# Altium footprint library Components.PcbLib: 163 footprints (part 8 of 11)
Each footprint in its own frame and in the unit in brackets; x right, y up, seen from the top. Pads: shape width x height; smd on the part's side, far side on the other; paste and mask are expansions set on the pad; w line width, h text height; cw(c..) or ccw(c..) is an arc to the next point about the centre after c.
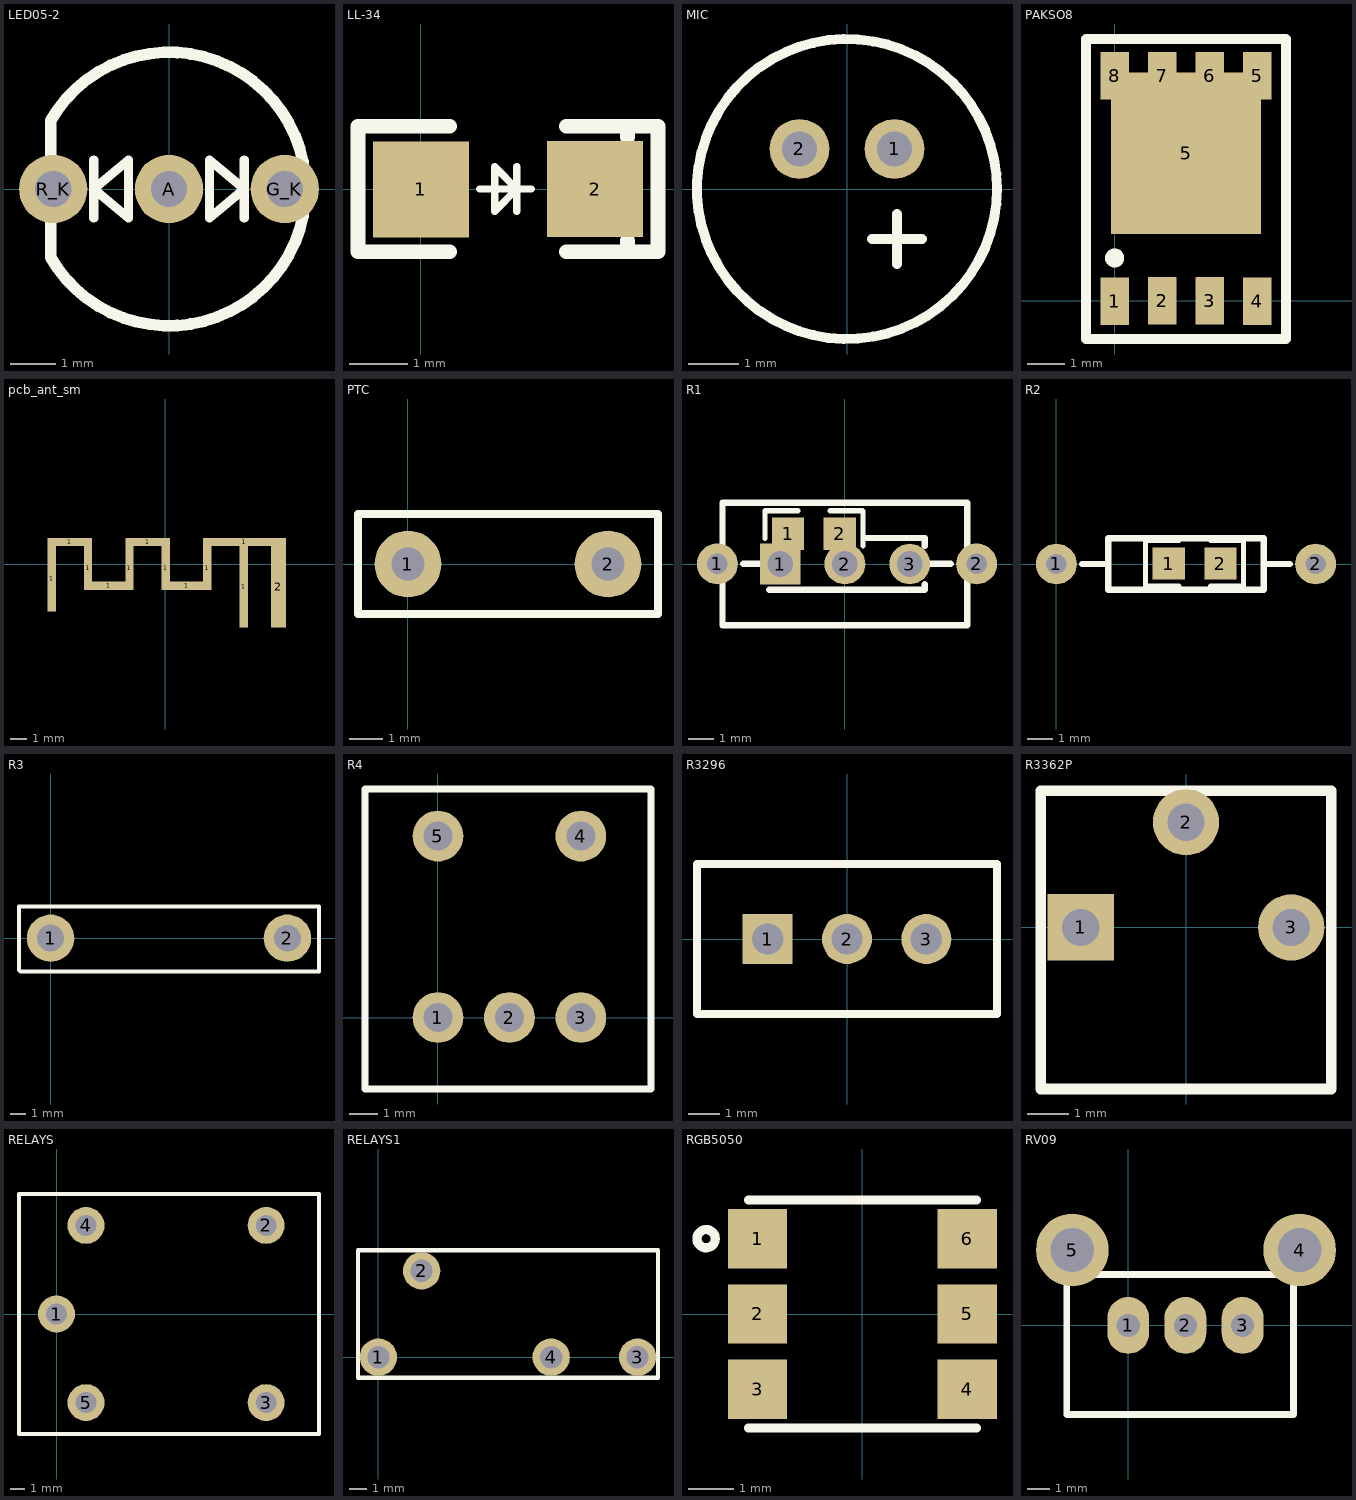
[diagram p7: the footprints below, top view; thin cyan lines are the x and y axes]

## LED05-2 [mm]
pads (3):
  round 1.5 hole 0.8: A(-0.001,0.001) G_K(2.539,0.001) R_K(-2.541,0.001)
Top Overlay:
  lines w0.203: -1.652,-0.634 -1.652,0.636 ; 1.65,-0.634 1.65,0.636 ; -1.652,0.001 -0.89,-0.634 -0.89,0.636 -1.652,0.001 ; 0.888,-0.634 1.65,0.001 0.888,0.636 0.888,-0.634
  lines w0.254: -2.599,-1.499 ccw(c-0.001,0.001) -2.599,1.501 -2.599,-1.499

## LL-34 [mm] "3.5*1.5mm"
pads (2):
  rect 1.65x1.65 smd: 1(0.003,-0.008) 2(3,0)
Top Overlay:
  lines w0.127: 1.016,0 1.905,0 ; 1.651,-0.381 1.651,0.381 ; 1.27,-0.381 1.27,0.381 1.651,0 1.27,-0.381
  lines w0.254: 0.5,-1.08 -1.08,-1.08 -1.08,1.08 0.5,1.08 ; 2.5,-1.08 4.064,-1.08 ; 2.5,1.08 4.08,1.08 4.08,-1.08 ; 3.556,-1.08 3.556,-0.889 ; 3.556,0.889 3.556,1.08

## MIC [mm] "MIC 6*5mm"
pads (2):
  round 1.2 hole 0.7: 1(0.95,0.8) 2(-0.95,0.8)
Top Overlay:
  circle w0.2: c0,0 r3
  lines w0.2: 0.5,-1 1.5,-1 ; 1,-1.5 1,-0.5

## PAKSO8 [mm]
pads (9):
  rect 0.76x1.27 smd: 1(0.003,-0.008) 2(1.27,0) 3(2.54,0) 4(3.81,-0.008) 5(3.81,6) 6(2.54,6) 7(1.27,6) 8(0,6)
  rect 4x4.3 smd: 5(1.905,3.937)
Top Overlay:
  circle w0.254: c0,1.143 r0.127
  lines w0.254: -0.762,-1.016 -0.762,6.985 -0.635,6.985 4.572,6.985 4.572,-1.016 -0.762,-1.016

## pcb_ant_sm [mm]
pads (12):
  rect 0.5x3.94 smd: 1(-6.85,-0.87)
  rect 2.7x0.5 smd: 1(-5.75,1.35) 1(-1.05,1.35)
  rect 0.5x2.64 smd: 1(-4.65,-0.22) 1(-2.15,-0.22) 1(0.05,-0.22) 1(2.55,-0.22)
  rect 2x0.5 smd: 1(-3.4,-1.29) 1(1.3,-1.29)
  rect 0.5x4.9 smd: 1(4.75,-1.35)
  rect 5x0.5 smd: 1(4.8,1.348)
  rect 0.9x4.9 smd: 2(6.85,-1.35)

## PTC [mm] "Resettable fuse"
pads (2):
  round 2 hole 1: 1(0,0) 2(6,0)
Top Overlay:
  lines w0.254: -1.5,-1.5 -1.5,1.5 7.5,1.5 7.5,-1.5 -1.5,-1.5

## R1 [mm] "R"
pads (7):
  round 1.6 hole 0.8: 1(-5,0.003) 2(5.16,0.003)
  rect 1.6x1.6 hole 1: 1(-2.54,0)
  rect 1.27x1.27 smd: 1(-2.232,1.192) 2(-0.2,1.192)
  round 1.6 hole 1: 2(0,0) 3(2.54,0)
Top Overlay:
  lines w0.2: -3.132,1 -3.132,2.07 ; -3.124,2.089 -1.835,2.089 ; -0.585,2.089 0.695,2.089 ; 0.7,0.7 0.7,2.075
  lines w0.254: -3.984,0.003 -2.968,0.003 ; -2.732,-1.013 -2.968,-1.013 3.128,-1.013 3.128,-0.8 ; 0.8,1.019 3.128,1.019 3.128,0.706 ; 3.128,0.003 4.144,0.003 ; -4.8,-2.4 -4.8,2.4 -4,2.4 4,2.4 4.8,2.4 4.8,-2.4 -4.8,-2.4

## R2 [mm] "R"
pads (4):
  round 1.6 hole 0.8: 1(0,0.003) 2(10.16,0.003)
  rect 1.27x1.27 smd: 1(4.4,0.022) 2(6.432,0.022)
Top Overlay:
  lines w0.2: 3.5,-0.859 3.5,0.9 ; 3.508,-0.859 4.797,-0.859 ; 3.508,0.919 4.797,0.919 ; 6.047,-0.859 7.327,-0.859 ; 6.047,0.919 7.327,0.919 ; 7.332,-0.856 7.332,0.905
  lines w0.254: 1.016,0.003 2.032,0.003 ; 8.128,0.003 9.144,0.003 ; 2.032,-1.013 8.128,-1.013 8.128,1.019 2.032,1.019 2.032,-1.013

## R3 [mm] "R"
pads (2):
  round 3 hole 1.7: 1(0,0.003) 2(15,0)
Top Overlay:
  lines w0.254: -2,-2 -2,2 17,2 17,-2.1 -1.9,-2.1 -2,-2

## R4 [mil]
pads (5):
  round 70 hole 40: 1(0,0) 2(98.43,0) 3(196.85,0) 4(196.85,250) 5(0,250)
Top Overlay:
  lines w10: -100.5,-98.5 -100.5,314.96 293.5,314.96 293.5,-98.5 -100.5,-98.5

## R3296 [mm] "R 3296W"
pads (3):
  rect 1.6x1.6 hole 1: 1(-2.54,0)
  round 1.6 hole 1: 2(0,0) 3(2.54,0)
Top Overlay:
  lines w0.254: -4.8,-2.4 -4.8,2.4 -4,2.4 4,2.4 4.8,2.4 4.8,-2.4 -4.8,-2.4

## R3362P [mm] "R 3362P"
pads (3):
  rect 1.6x1.6 hole 0.9: 1(-2.54,0)
  round 1.6 hole 0.9: 2(0,2.54) 3(2.54,0)
Top Overlay:
  lines w0.254: -3.5,-3.9 3.5,-3.9 3.5,3.3 -3.5,3.3 -3.5,-3.9

## RELAYS [mm]
pads (5):
  round 2.5 hole 1.4: 1(0,0) 2(14.2,6) 3(14.2,-6) 4(2,6) 5(2,-6)
Top Overlay:
  lines w0.254: -2.54,-8.128 -2.54,-7.62 -2.54,8.128 17.78,8.128 17.78,7.62 17.78,-8.128 -2.54,-8.128

## RELAYS1 [mm]
pads (4):
  round 2.2 hole 1.3: 1(0,0) 2(2.54,5.08) 3(15.24,0) 4(10.16,0)
Top Overlay:
  lines w0.254: -1.2,-1.2 16.44,-1.2 16.44,6.28 -1.2,6.28 -1.2,-1.2

## RGB5050 [mm] "RGB5050"
pads (6):
  rect 1.3x1.3 smd: 1(-2.3,1.65) 2(-2.3,0) 3(-2.3,-1.65) 4(2.3,-1.65) 5(2.3,0) 6(2.3,1.65)
Top Overlay:
  circle w0.2: c-3.429,1.651 r0.2
  lines w0.2: -2.5,-2.5 2.5,-2.5 ; -2.5,2.5 2.5,2.5

## RV09 [mil] "RV09"
pads (5):
  oval 72x98 hole 40: 1(0,0) 2(98.43,0) 3(196.85,0)
  round 125 hole 75: 4(295.28,129.92) 5(-96.46,129.92)
Top Overlay:
  lines w12: -106,-153 284.5,-153 284.5,88 -106,88 -106,-153